# Altium footprint library DMT15H017LPS_NO_SWP.PcbLib: 1 footprints
Each footprint in its own frame and in the unit in brackets; x right, y up, seen from the top. Pads: shape width x height; smd on the part's side, far side on the other; paste and mask are expansions set on the pad; w line width, h text height; cw(c..) or ccw(c..) is an arc to the next point about the centre after c.
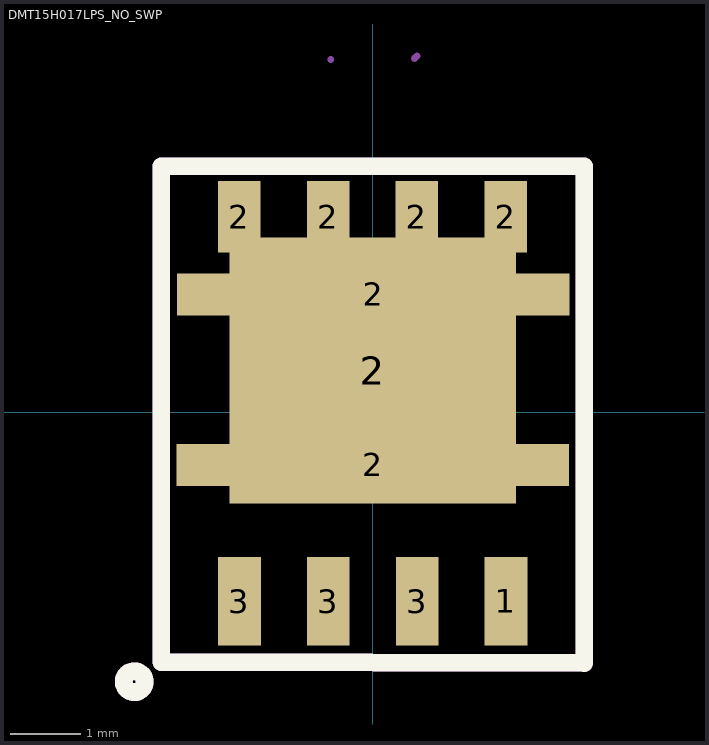
[diagram p0: the footprint, top view; thin cyan lines are the x and y axes]

## DMT15H017LPS_NO_SWP [mm]
pads (11):
  rect 0.61x1.27 smd: 1(1.905,-2.7) 3(-1.905,-2.7) 3(-0.635,-2.7) 3(0.635,-2.7)
  rect 0.61x1.02 smd: 2(-1.908,2.8) 2(-0.638,2.8) 2(0.632,2.8) 2(1.902,2.8)
  rect 5.61x0.6 smd: 2(0,-0.75) 2(0.009,1.689)
  rect 4.1x3.81 smd: 2(0,0.6)
Top Overlay:
  circle w0.254: c-3.41,-3.85 r0.15
  lines w0.254: -3.025,-3.569 3.025,-3.582 3.025,3.52 -3.025,3.52 -3.025,-3.569
Top Assembly:
  circle w0.254: c-3.41,-3.85 r0.15
  lines w0.1: 0.6,5.065 0.635,5.1 ; -0.6,5.05 -0.6,5.05
  lines w0.254: -3.025,-3.568 3.025,-3.581 3.025,3.52 -3.025,3.52 -3.025,-3.568
  text "'.Designator'" at -0.85,-0.375 h0.7
Top TopCourtyard/BotCourtyard (Mech15):
  lines w0.254: -0.893,0 0,0 ; -0.011,-0.827 -0.011,0.055 ; 0,0.882 0,0 ; 0.893,0 0,0
3D body "DMT15H017LPS-13.stp": height 1, standoff -0.01, extent -2.575,-3.078 2.575,3.057